# EAGLE library part L3GD20H (library Sensor)
MEMS motion sensor: three-axis digital output gyroscope Datasheet <https://www.st.com/resource/en/datasheet/l3gd20h.pdf>
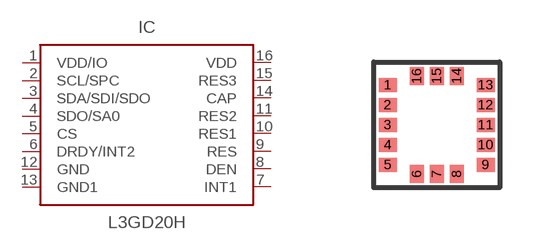
[diagram p1: symbol with the pads of L3GD20H_LGA16; footprint L3GD20H_LGA16]

Designator prefix IC

## L3GD20H (CATEGORY: Gyroscope; DESCRIPTION: MEMS motion sensor: three-axis digital output gyroscope; MANUFACTURER: STMicroelectronics; MPN: L3GD20H; OPERATING_TEMP: -40 °C to 85 °C; PART_STATUS: Active; ROHS_COMPLIANT: RoHS Compliant; SERIES: L3GD20H; SUBCATEGORY: SENSOR; TYPE: 3-axis; VALUE: L3GD20H), L3GD20HTR (CATEGORY: Gyroscope; DESCRIPTION: MEMS motion sensor: three-axis digital output gyroscope; MANUFACTURER: STMicroelectronics; MPN: L3GD20H; OPERATING_TEMP: -40 °C to 85 °C; PART_STATUS: Active; ROHS_COMPLIANT: RoHS Compliant; SERIES: L3GD20H; SUBCATEGORY: SENSOR; TYPE: 3-axis; VALUE: L3GD20H)  [L3GD20H_LGA16]
1  VDD/IO
2  SCL/SPC
3  SDA/SDI/SDO
4  SDO/SA0
5  CS
6  DRDY/INT2
7  INT1
8  DEN
9  RES
10  RES1
11  RES2
12  GND
13  GND1
14  CAP
15  RES3
16  VDD

## Footprint L3GD20H_LGA16 (pad centres in mm)
smd 0.45 x 0.35: 1 -1.225,1; 2 -1.225,0.5; 3 -1.225,0; 4 -1.225,-0.5; 5 -1.225,-1; 9 1.225,-1; 10 1.225,-0.5; 11 1.225,0; 12 1.225,0.5; 13 1.225,1
smd 0.35 x 0.45: 6 -0.5,-1.225; 7 0,-1.225; 8 0.5,-1.225; 14 0.5,1.225; 15 0,1.225; 16 -0.5,1.225